# Altium schematic symbol library ECS-135-S-1.SchLib: 1 symbol
Pins are listed as number, name and electrical type; pins without a type are passive.

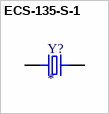
[diagram p0: symbol ECS-135-S-1]

## ECS-135-S-1
designator Y?
MP: ECS-135-S-1; Package: None; Price: None; Value: *; Availability: Unavailable
footprint XTAL_ECS-135-S-1
pins: 1, 2